# EAGLE library part 351 (library RELAY)
RELAY 2 x switch, Omron
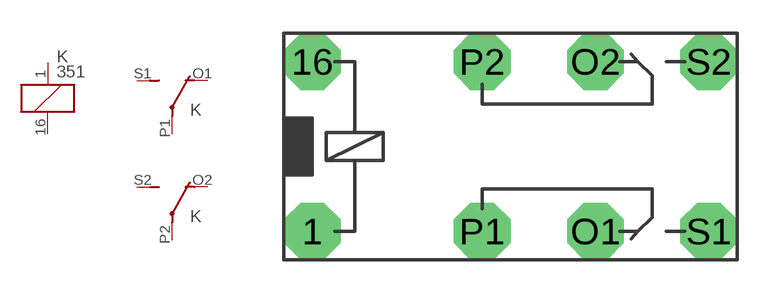
[diagram p3: symbol with the pads of 351; footprint 351]

Designator prefix K; gates 1=K 2=U 3=U

## 351  [351]
1  1:1  pas
16  1:2  pas
O1  2:O  pas
O2  3:O  pas
P1  2:P  pas
P2  3:P  pas
S1  2:S  pas
S2  3:S  pas

## Footprint 351 (pad centres in mm)
RELAY 2 x switch, same as G5 V-2, Omron
drill 1.016 pad 2.54 octagon: 1 -3.81,-3.81; 16 -3.81,3.81; O1 8.89,-3.81; O2 8.89,3.81; P1 3.81,-3.81; P2 3.81,3.81; S1 13.97,-3.81; S2 13.97,3.81